# EAGLE library part MICROCHIP_PIC32MX7X5F*L (library chipKIT_Max32)
High Performance, USB, CAN and Ethernet 32-Bit Flash Microcontroller
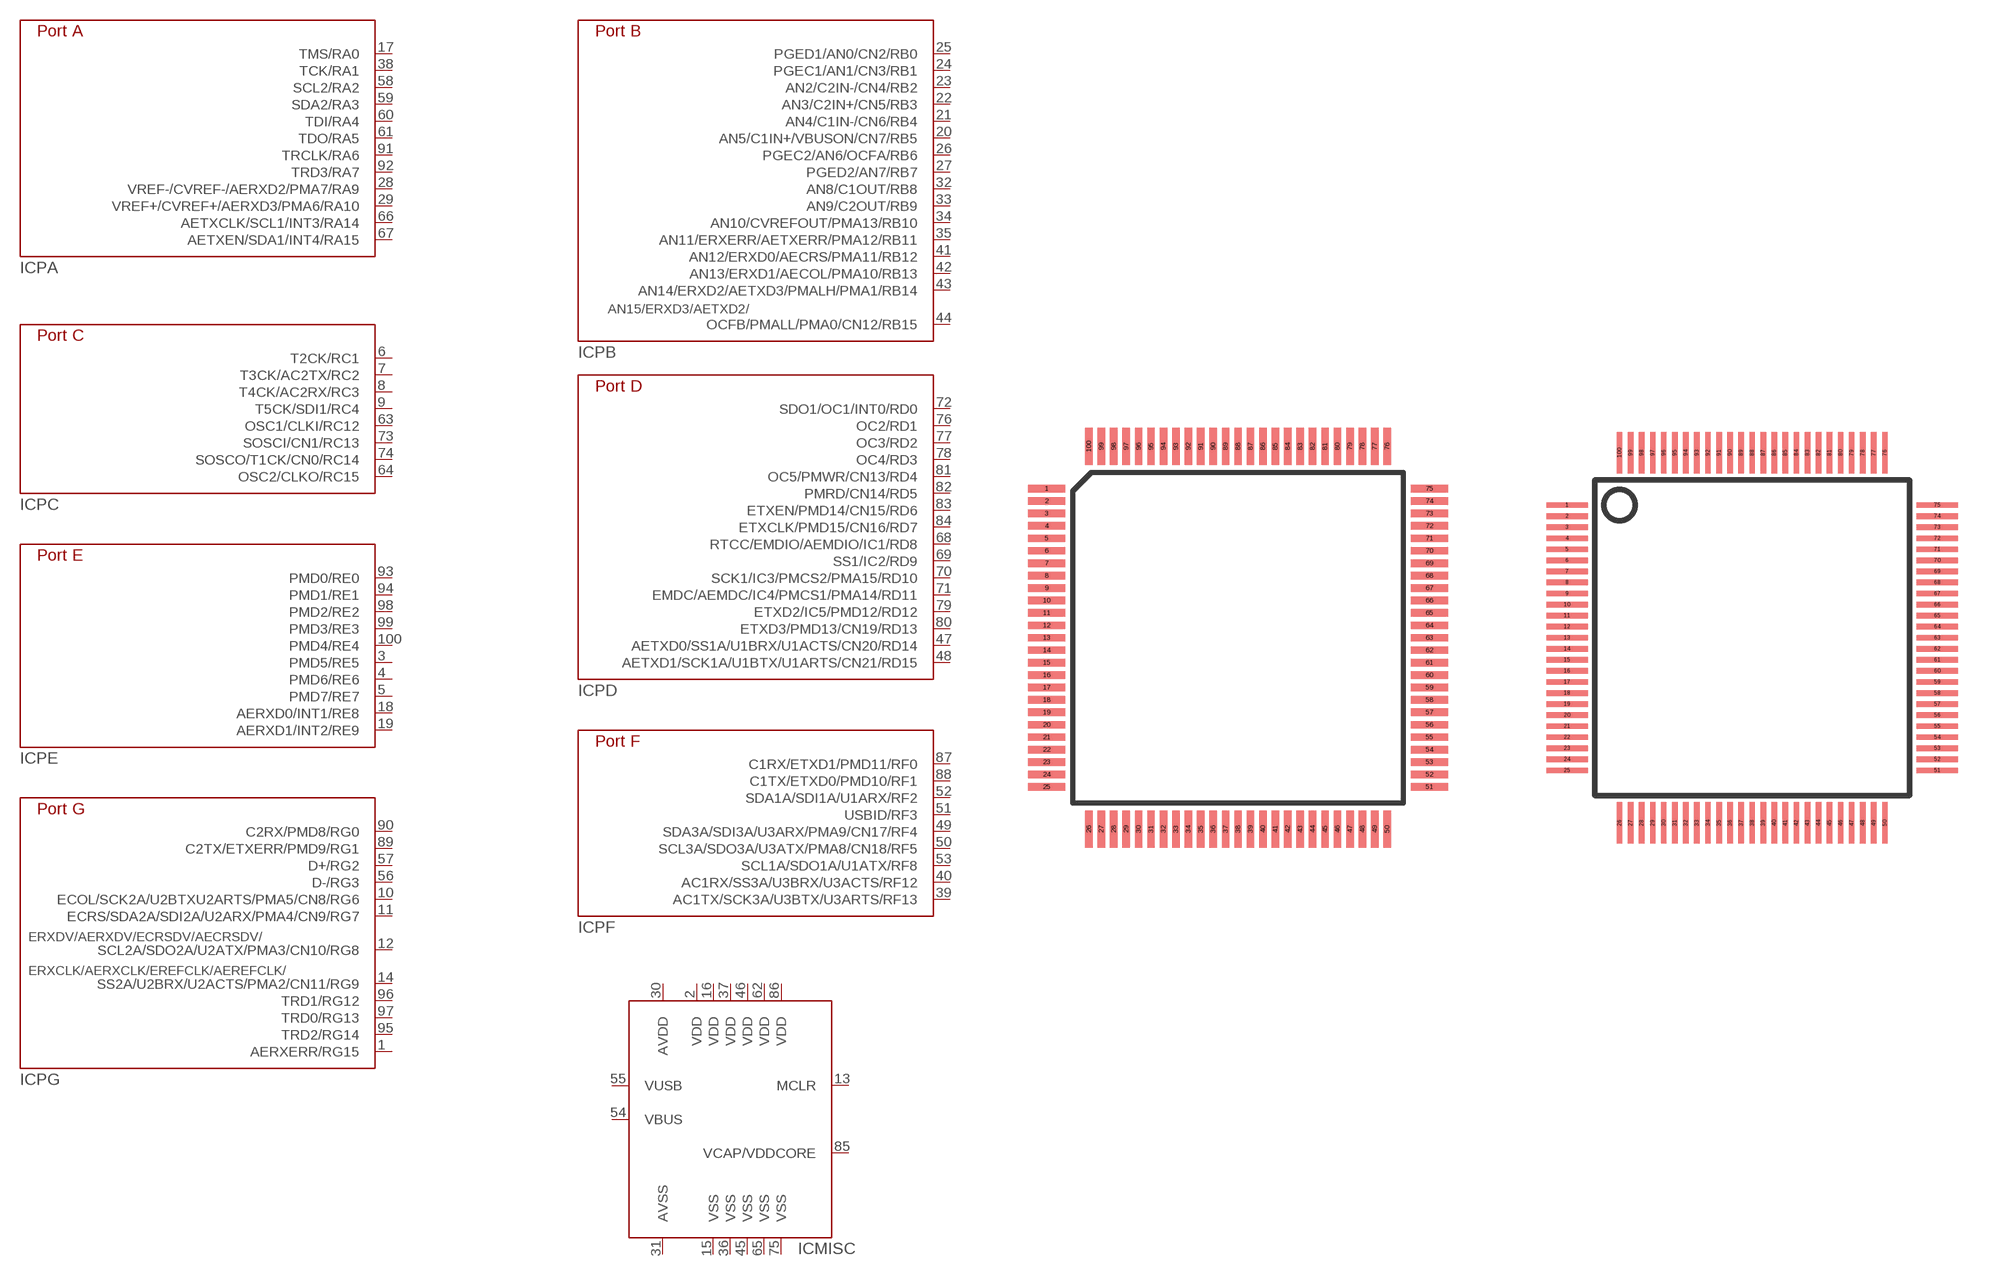
[diagram p9: symbol with the pads of MICROCHIP_TQ100-PF; footprints MICROCHIP_TQ100-PF, MICROCHIP_TQ100-PT]

Designator prefix IC; gates MISC=MICROCHIP_PIC32MX7XXL-MISC PA=MICROCHIP_PIC32MX7XXL-PA PB=MICROCHIP_PIC32MX7XXL-PB PC=MICROCHIP_PIC32MX7XXL-PC PD=MICROCHIP_PIC32MX7XXL-PD PE=MICROCHIP_PIC32MX7XXL-PE PF=MICROCHIP_PIC32MX7XXL-PF PG=MICROCHIP_PIC32MX7XXL-PG

## MICROCHIP_PIC32MX7X5FL-PF, MICROCHIP_PIC32MX7X5F256L-PF, MICROCHIP_PIC32MX7X5F512L-PF  [MICROCHIP_TQ100-PF]
1  PG:AERXERR/RG15
2  MISC:VDD
3  PE:PMD5/RE5
4  PE:PMD6/RE6
5  PE:PMD7/RE7
6  PC:T2CK/RC1
7  PC:T3CK/AC2TX/RC2
8  PC:T4CK/AC2RX/RC3
9  PC:T5CK/SDI1/RC4
10  PG:ECOL/SCK2A/U2BTXU2ARTS/PMA5/CN8/RG6
11  PG:ECRS/SDA2A/SDI2A/U2ARX/PMA4/CN9/RG7
12  PG:SCL2A/SDO2A/U2ATX/PMA3/CN10/RG8
13  MISC:MCLR
14  PG:SS2A/U2BRX/U2ACTS/PMA2/CN11/RG9
15  MISC:VSS
16  MISC:VDD
17  PA:TMS/RA0
18  PE:AERXD0/INT1/RE8
19  PE:AERXD1/INT2/RE9
20  PB:AN5/C1IN+/VBUSON/CN7/RB5
21  PB:AN4/C1IN-/CN6/RB4
22  PB:AN3/C2IN+/CN5/RB3
23  PB:AN2/C2IN-/CN4/RB2
24  PB:PGEC1/AN1/CN3/RB1
25  PB:PGED1/AN0/CN2/RB0
26  PB:PGEC2/AN6/OCFA/RB6
27  PB:PGED2/AN7/RB7
28  PA:VREF-/CVREF-/AERXD2/PMA7/RA9
29  PA:VREF+/CVREF+/AERXD3/PMA6/RA10
30  MISC:AVDD
31  MISC:AVSS
32  PB:AN8/C1OUT/RB8
33  PB:AN9/C2OUT/RB9
34  PB:AN10/CVREFOUT/PMA13/RB10
35  PB:AN11/ERXERR/AETXERR/PMA12/RB11
36  MISC:VSS
37  MISC:VDD
38  PA:TCK/RA1
39  PF:AC1TX/SCK3A/U3BTX/U3ARTS/RF13
40  PF:AC1RX/SS3A/U3BRX/U3ACTS/RF12
41  PB:AN12/ERXD0/AECRS/PMA11/RB12
42  PB:AN13/ERXD1/AECOL/PMA10/RB13
43  PB:AN14/ERXD2/AETXD3/PMALH/PMA1/RB14
44  PB:OCFB/PMALL/PMA0/CN12/RB15
45  MISC:VSS
46  MISC:VDD
47  PD:AETXD0/SS1A/U1BRX/U1ACTS/CN20/RD14
48  PD:AETXD1/SCK1A/U1BTX/U1ARTS/CN21/RD15
49  PF:SDA3A/SDI3A/U3ARX/PMA9/CN17/RF4
50  PF:SCL3A/SDO3A/U3ATX/PMA8/CN18/RF5
51  PF:USBID/RF3
52  PF:SDA1A/SDI1A/U1ARX/RF2
53  PF:SCL1A/SDO1A/U1ATX/RF8
54  MISC:VBUS
55  MISC:VUSB
56  PG:D-/RG3
57  PG:D+/RG2
58  PA:SCL2/RA2
59  PA:SDA2/RA3
60  PA:TDI/RA4
61  PA:TDO/RA5
62  MISC:VDD
63  PC:OSC1/CLKI/RC12
64  PC:OSC2/CLKO/RC15
65  MISC:VSS
66  PA:AETXCLK/SCL1/INT3/RA14
67  PA:AETXEN/SDA1/INT4/RA15
68  PD:RTCC/EMDIO/AEMDIO/IC1/RD8
69  PD:SS1/IC2/RD9
70  PD:SCK1/IC3/PMCS2/PMA15/RD10
71  PD:EMDC/AEMDC/IC4/PMCS1/PMA14/RD11
72  PD:SDO1/OC1/INT0/RD0
73  PC:SOSCI/CN1/RC13
74  PC:SOSCO/T1CK/CN0/RC14
75  MISC:VSS
76  PD:OC2/RD1
77  PD:OC3/RD2
78  PD:OC4/RD3
79  PD:ETXD2/IC5/PMD12/RD12
80  PD:ETXD3/PMD13/CN19/RD13
81  PD:OC5/PMWR/CN13/RD4
82  PD:PMRD/CN14/RD5
83  PD:ETXEN/PMD14/CN15/RD6
84  PD:ETXCLK/PMD15/CN16/RD7
85  MISC:VCAP/VDDCORE
86  MISC:VDD
87  PF:C1RX/ETXD1/PMD11/RF0
88  PF:C1TX/ETXD0/PMD10/RF1
89  PG:C2TX/ETXERR/PMD9/RG1
90  PG:C2RX/PMD8/RG0
91  PA:TRCLK/RA6
92  PA:TRD3/RA7
93  PE:PMD0/RE0
94  PE:PMD1/RE1
95  PG:TRD2/RG14
96  PG:TRD1/RG12
97  PG:TRD0/RG13
98  PE:PMD2/RE2
99  PE:PMD3/RE3
100  PE:PMD4/RE4

## MICROCHIP_PIC32MX7X5FL-PT  [MICROCHIP_TQ100-PT]
Pads as for MICROCHIP_TQ100-PF

## Footprint MICROCHIP_TQ100-PF (pad centres in mm)
TQFP 100 pin, 0.5mm pitch, 25 x 25 square
smd 1.5 x 0.3: 1 -7.7,6; 2 -7.7,5.5; 3 -7.7,5; 4 -7.7,4.5; 5 -7.7,4; 6 -7.7,3.5; 7 -7.7,3; 8 -7.7,2.5; 9 -7.7,2; 10 -7.7,1.5; 11 -7.7,1; 12 -7.7,0.5; 13 -7.7,0; 14 -7.7,-0.5; 15 -7.7,-1; 16 -7.7,-1.5; 17 -7.7,-2; 18 -7.7,-2.5; 19 -7.7,-3; 20 -7.7,-3.5; 21 -7.7,-4; 22 -7.7,-4.5; 23 -7.7,-5; 24 -7.7,-5.5; 25 -7.7,-6; 51 7.7,-6; 52 7.7,-5.5; 53 7.7,-5; 54 7.7,-4.5; 55 7.7,-4; 56 7.7,-3.5; 57 7.7,-3; 58 7.7,-2.5; 59 7.7,-2; 60 7.7,-1.5; 61 7.7,-1; 62 7.7,-0.5; 63 7.7,0; 64 7.7,0.5; 65 7.7,1; 66 7.7,1.5; 67 7.7,2; 68 7.7,2.5; 69 7.7,3; 70 7.7,3.5; 71 7.7,4; 72 7.7,4.5; 73 7.7,5; 74 7.7,5.5; 75 7.7,6
smd 0.3 x 1.5: 26 -6,-7.7; 27 -5.5,-7.7; 28 -5,-7.7; 29 -4.5,-7.7; 30 -4,-7.7; 31 -3.5,-7.7; 32 -3,-7.7; 33 -2.5,-7.7; 34 -2,-7.7; 35 -1.5,-7.7; 36 -1,-7.7; 37 -0.5,-7.7; 38 0,-7.7; 39 0.5,-7.7; 40 1,-7.7; 41 1.5,-7.7; 42 2,-7.7; 43 2.5,-7.7; 44 3,-7.7; 45 3.5,-7.7; 46 4,-7.7; 47 4.5,-7.7; 48 5,-7.7; 49 5.5,-7.7; 50 6,-7.7; 76 6,7.7; 77 5.5,7.7; 78 5,7.7; 79 4.5,7.7; 80 4,7.7; 81 3.5,7.7; 82 3,7.7; 83 2.5,7.7; 84 2,7.7; 85 1.5,7.7; 86 1,7.7; 87 0.5,7.7; 88 0,7.7; 89 -0.5,7.7; 90 -1,7.7; 91 -1.5,7.7; 92 -2,7.7; 93 -2.5,7.7; 94 -3,7.7; 95 -3.5,7.7; 96 -4,7.7; 97 -4.5,7.7; 98 -5,7.7; 99 -5.5,7.7; 100 -6,7.7

## Footprint MICROCHIP_TQ100-PT (pad centres in mm)
TQFP 100 pin, 0.4mm pitch, 25x25
smd 1.5 x 0.2: 1 -6.7,4.8; 2 -6.7,4.4; 3 -6.7,4; 4 -6.7,3.6; 5 -6.7,3.2; 6 -6.7,2.8; 7 -6.7,2.4; 8 -6.7,2; 9 -6.7,1.6; 10 -6.7,1.2; 11 -6.7,0.8; 12 -6.7,0.4; 13 -6.7,0; 14 -6.7,-0.4; 15 -6.7,-0.8; 16 -6.7,-1.2; 17 -6.7,-1.6; 18 -6.7,-2; 19 -6.7,-2.4; 20 -6.7,-2.8; 21 -6.7,-3.2; 22 -6.7,-3.6; 23 -6.7,-4; 24 -6.7,-4.4; 25 -6.7,-4.8; 51 6.7,-4.8; 52 6.7,-4.4; 53 6.7,-4; 54 6.7,-3.6; 55 6.7,-3.2; 56 6.7,-2.8; 57 6.7,-2.4; 58 6.7,-2; 59 6.7,-1.6; 60 6.7,-1.2; 61 6.7,-0.8; 62 6.7,-0.4; 63 6.7,0; 64 6.7,0.4; 65 6.7,0.8; 66 6.7,1.2; 67 6.7,1.6; 68 6.7,2; 69 6.7,2.4; 70 6.7,2.8; 71 6.7,3.2; 72 6.7,3.6; 73 6.7,4; 74 6.7,4.4; 75 6.7,4.8
smd 0.2 x 1.5: 26 -4.8,-6.7; 27 -4.4,-6.7; 28 -4,-6.7; 29 -3.6,-6.7; 30 -3.2,-6.7; 31 -2.8,-6.7; 32 -2.4,-6.7; 33 -2,-6.7; 34 -1.6,-6.7; 35 -1.2,-6.7; 36 -0.8,-6.7; 37 -0.4,-6.7; 38 0,-6.7; 39 0.4,-6.7; 40 0.8,-6.7; 41 1.2,-6.7; 42 1.6,-6.7; 43 2,-6.7; 44 2.4,-6.7; 45 2.8,-6.7; 46 3.2,-6.7; 47 3.6,-6.7; 48 4,-6.7; 49 4.4,-6.7; 50 4.8,-6.7; 76 4.8,6.7; 77 4.4,6.7; 78 4,6.7; 79 3.6,6.7; 80 3.2,6.7; 81 2.8,6.7; 82 2.4,6.7; 83 2,6.7; 84 1.6,6.7; 85 1.2,6.7; 86 0.8,6.7; 87 0.4,6.7; 88 0,6.7; 89 -0.4,6.7; 90 -0.8,6.7; 91 -1.2,6.7; 92 -1.6,6.7; 93 -2,6.7; 94 -2.4,6.7; 95 -2.8,6.7; 96 -3.2,6.7; 97 -3.6,6.7; 98 -4,6.7; 99 -4.4,6.7; 100 -4.8,6.7